# Altium footprint library LERTDUWS2WM-JBLA-1LBMA-P4V5A-PMBNA-CQ.PcbLib: 1 footprints
Each footprint in its own frame and in the unit in brackets; x right, y up, seen from the top. Pads: shape width x height; smd on the part's side, far side on the other; paste and mask are expansions set on the pad; w line width, h text height; cw(c..) or ccw(c..) is an arc to the next point about the centre after c.
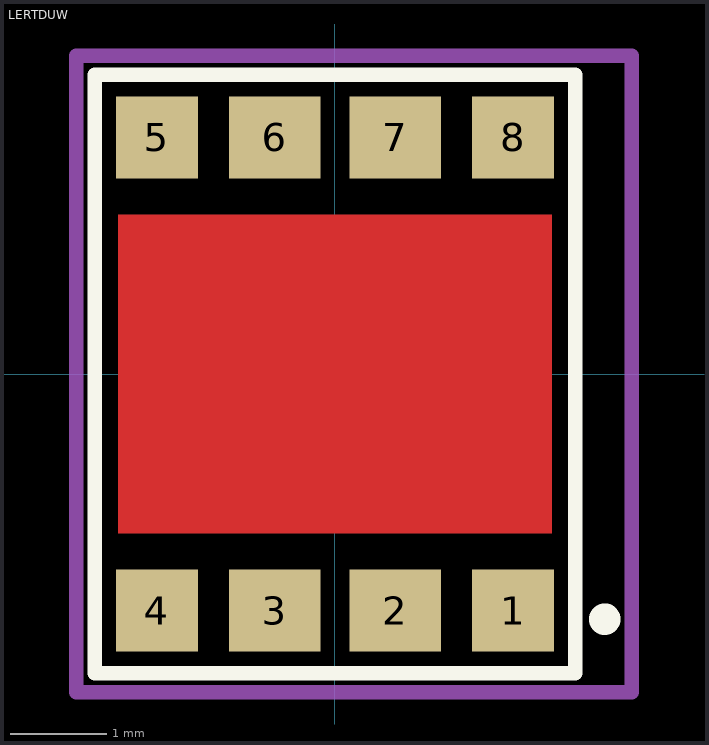
[diagram p0: the footprint, top view; thin cyan lines are the x and y axes]

## LERTDUW [mil]
pads (8):
  rect 33.5x33.5 smd: 1(72.6,-96.5) 4(-72.6,-96.5) 5(-72.6,96.5) 8(72.6,96.5)
  rect 37.4x33.5 smd: 2(24.6,-96.5) 3(-24.6,-96.5) 6(-24.6,96.5) 7(24.6,96.5)
Top Layer:
  rectangle: -88.58,-64.95 88.58,64.95
Top Overlay:
  circle w10: c110,-100 r1.41
  lines w6: -98,-122 -98,122 98,122 98,-122 -98,-122
Top Solder:
  lines w4: -90.58,-66.95 90.58,-66.95 90.58,66.95 -90.58,66.95 -90.58,-66.95
Boundary:
  lines w6: -105.5,-129.75 121,-129.75 121,129.75 -105.5,129.75 -105.5,-129.75
3D body "LERTDUWS2WM-JBLA-1+LBMA-P+4V5A-P+MBNA-CQ.stp": height 51.97, standoff 0, extent -92.13,-113.19 92.13,113.19